# Altium footprint library Badge_V2.PcbLib: 10 footprints
Each footprint in its own frame and in the unit in brackets; x right, y up, seen from the top. Pads: shape width x height; smd on the part's side, far side on the other; paste and mask are expansions set on the pad; w line width, h text height; cw(c..) or ccw(c..) is an arc to the next point about the centre after c.
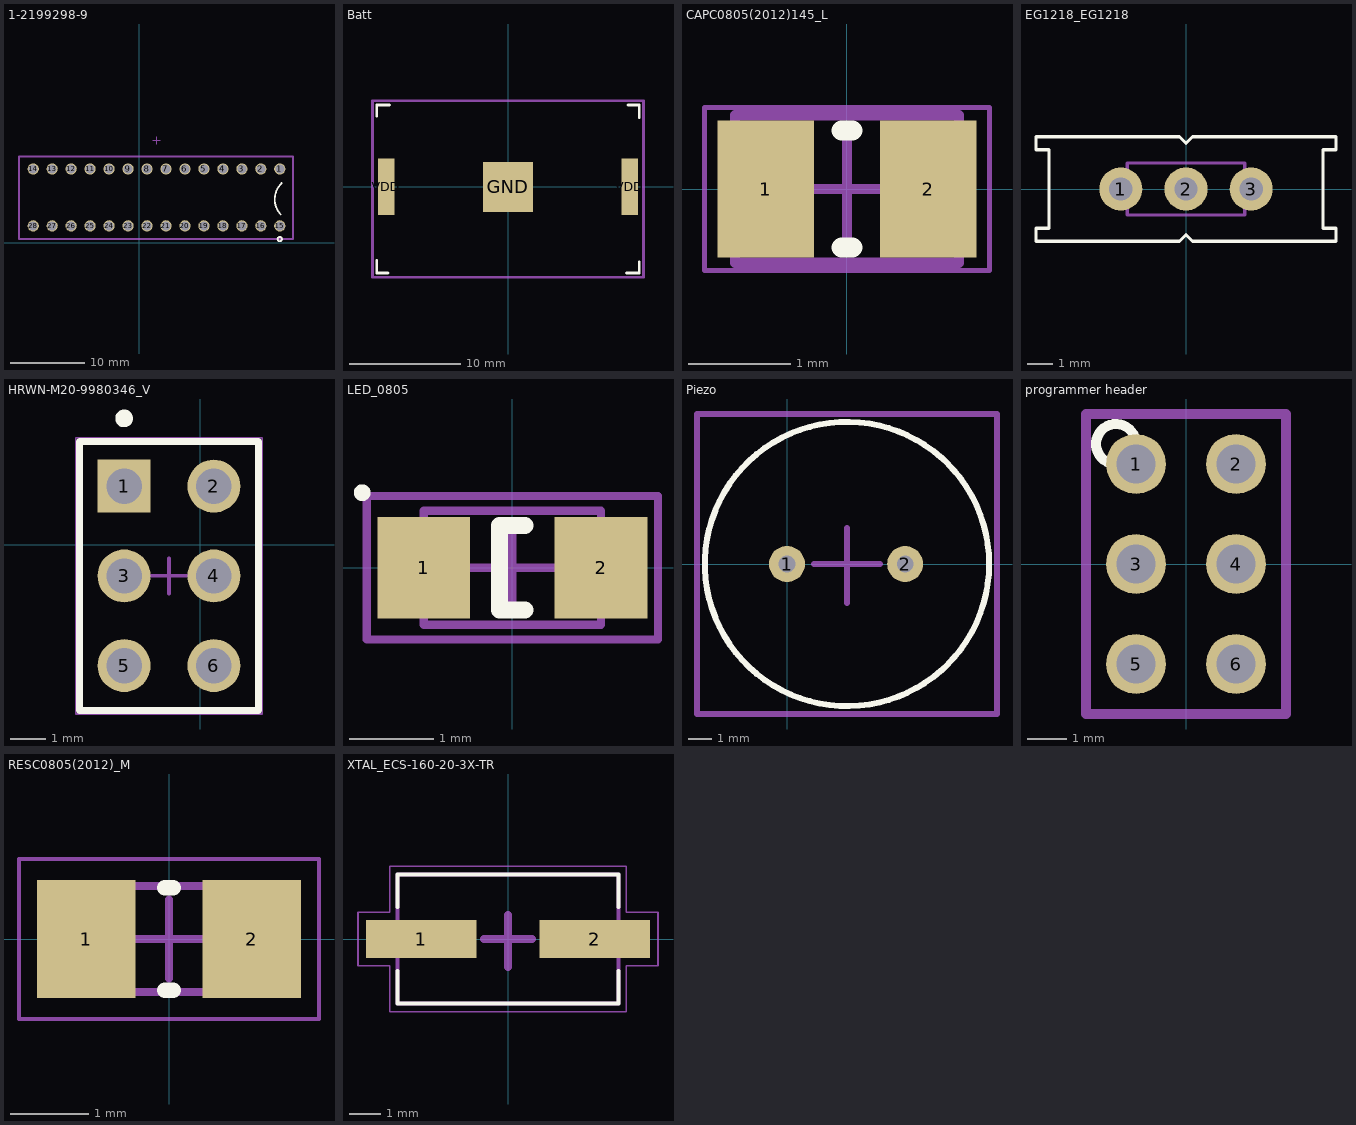
[diagram p0: the footprints below, top view; thin cyan lines are the x and y axes]

## 1-2199298-9 [mm] "CONN IC DIP SOCKET 28POS TIN"
height 4.2
pads (28):
  round 1.5 hole 1.2: 1(18.796,9.906) 2(16.256,9.906) 3(13.716,9.906) 4(11.176,9.906) 5(8.636,9.906) 6(6.096,9.906) 7(3.556,9.906) 8(1.016,9.906) 9(-1.524,9.906) 10(-4.064,9.906) 11(-6.604,9.906) 12(-9.144,9.906) 13(-11.684,9.906) 14(-14.224,9.906) 15(18.796,2.286) 16(16.256,2.286) 17(13.716,2.286) 18(11.176,2.286) 19(8.636,2.286) 20(6.096,2.286) 21(3.556,2.286) 22(1.016,2.286) 23(-1.524,2.286) 24(-4.064,2.286) 25(-6.604,2.286) 26(-9.144,2.286) 27(-11.684,2.286) 28(-14.224,2.286)
Top Overlay:
  circle w0.254: c18.796,0.508 r0.284
  lines w0.254: 18.923,3.81 cw(c21.082,5.842) 19.05,8.001
Mechanical 15:
  lines w0.1: 1.786,13.716 2.786,13.716 ; 2.286,13.216 2.286,14.216
  lines w0.254: -16.129,0.508 20.574,0.508 20.574,11.557 -16.129,11.557 -16.129,0.508
3D body "c-1-2199298-9-a-3d.stp": height 5, standoff -3.1, extent -15.494,0.969 20.066,10.969

## Batt [mm] "Coin Cell"
pads (3):
  rect 4.5x4.5 smd: GND(0,0)
  rect 1.5x5.1 smd: VDD(-10.95,0) VDD(10.95,0)
Top Overlay:
  lines w0.254: -11.811,-6.604 -11.811,-7.747 -10.795,-7.747 ; -11.811,6.35 -11.811,7.366 -10.668,7.366 ; 10.668,-7.747 11.811,-7.747 11.811,-6.731 ; 10.795,7.366 11.811,7.366 11.811,6.223
Mechanical 15:
  lines w0.254: -1.778,0 1.905,0 ; 0,-1.905 0,1.778 ; -12.192,-8.128 12.192,-8.128 12.192,7.747 -12.192,7.747 -12.192,-8.128
3D body: height 0.25, standoff 0, extent -11.811,-7.747 11.811,7.366

## CAPC0805(2012)145_L [mm] "Chip Capacitor, Body 2.0x1.2mm, Height 1.45mm, IPC High Density"
height 1.45
pads (2):
  rect 0.95x1.35 smd: 1(-0.8,0) 2(0.8,0)
Top Overlay:
  lines w0.2: -0.05,-0.575 0.05,-0.575 ; -0.05,0.575 0.05,0.575
Mechanical 13:
  lines w0.1: -1.1,-0.725 -1.1,0.725 1.1,0.725 1.1,-0.725 -1.1,-0.725
Mechanical 15:
  lines w0.05: -1.4,-0.8 -1.4,0.8 1.4,0.8 1.4,-0.8 -1.4,-0.8
  lines w0.1: -0.5,0 0.5,0 ; 0,-0.5 0,0.5
3D body: height 1.45, standoff 0, extent -0.6,-0.725 0.6,0.725
3D body: height 1.45, standoff 0, extent -1.1,-0.725 -0.6,0.725
3D body: height 1.45, standoff 0, extent 0.6,-0.725 1.1,0.725

## EG1218_EG1218 [mil]
pads (3):
  round 66 hole 35.43: 1(-100,0) 2(0,0) 3(100,0)
Top Overlay:
  lines w5: -230,-80 -10,-80 0,-70 10,-80 230,-80 230,-60 210,-60 210,60 230,60 230,80 10,80 0,70 -10,80 -230,80 -230,60 -210,60 -210,-60 -230,-60 -230,-80
Mechanical 4:
  lines w5: -90,-40 90,-40 ; -90,-40 -90,40 ; -90,-40 90,-40 ; -90,-40 -90,40 ; -90,40 90,40 ; -90,40 90,40 ; 90,-40 90,40 ; 90,-40 90,40
3D body "EG1218--3DModel-STEP-56544.STEP": height 303.15, standoff -173.23, extent -228.34,-78.73 228.36,78.75

## HRWN-M20-9980346_V [mm] "THD, 6-Leads, Body 7.62x5.08mm, Pitch 2.54mm"
height 8.64
pads (6):
  rect 1.5x1.5 hole 1: 1(-2.159,1.651)
  round 1.5 hole 1: 2(0.381,1.651) 3(-2.159,-0.889) 4(0.381,-0.889) 5(-2.159,-3.429) 6(0.381,-3.429)
Top Overlay:
  circle w0.25: c-2.159,3.571 r0.125
  lines w0.2: -3.429,-4.699 1.651,-4.699 1.651,2.921 -3.429,2.921 -3.429,-4.699
Mechanical 13:
  lines w0.1: -3.429,-4.699 1.651,-4.699 1.651,2.921 -3.429,2.921 -3.429,-4.699
Mechanical 15:
  lines w0.05: -3.529,-4.799 1.751,-4.799 1.751,3.021 -3.529,3.021 -3.529,-4.799
  lines w0.1: -1.389,-0.889 -0.389,-0.889 ; -0.889,-1.389 -0.889,-0.389
3D body "m20-9980346_asm.stp": height 8.12, standoff -3.56, extent -3.429,-4.699 1.651,2.921

## LED_0805 [mm] "Chip LED, 2-Leads, Body 2.0x1.3mm, IPC Medium Density"
height 0.8
pads (2):
  rect 1.1x1.2 smd: 1(-1.05,0) 2(1.05,0)
Top Overlay:
  circle w0.1: c-1.778,0.889 r0.05
  lines w0.2: 0.15,-0.5 -0.15,-0.5 -0.15,0.5 0.15,0.5
Mechanical 13:
  lines w0.1: -1.05,-0.675 1.05,-0.675 1.05,0.675 -1.05,0.675 -1.05,-0.675
Mechanical 15:
  lines w0.1: -0.5,0 0.5,0 ; 0,-0.5 0,0.5 ; -1.725,-0.85 1.725,-0.85 1.725,0.85 -1.725,0.85 -1.725,-0.85
3D body "WL-SMCW_0805_LED.stp": height 0.68, standoff -0.02, extent -1,-0.625 1,0.625

## Piezo [mil]
pads (2):
  round 60 hole 27.56: 1(0,0) 2(196.85,0)
Top Overlay:
  circle w10: c100,0 r236.91
Mechanical 15:
  lines w10: 45,0 155,0 ; 100,-65 100,60 ; -150,-250 350,-250 350,250 -150,250 -150,-250
3D body: height 255.91, standoff 0, extent -140.15,-240.04 340.16,240.04

## programmer header [mil]
pads (6):
  round 60 hole 39.37: 1(-50,100) 2(50,100) 3(-50,0) 4(50,0) 5(-50,-100) 6(50,-100)
Top Overlay:
  circle w10: c-70,120 r20
Mechanical 1:
  lines w10: -100,-150 100,-150 100,150 -100,150 -100,-150
3D body "010897060.stp": height 330, standoff -107, extent -100,-149.99 100,150.01

## RESC0805(2012)_M [mm] "Chip Resistor, Body 2.0x1.3mm, IPC Low Density"
height 0.7
pads (2):
  rect 1.25x1.5 smd: 1(-1.05,0) 2(1.05,0)
Top Overlay:
  lines w0.2: -0.05,-0.65 0.05,-0.65 ; -0.05,0.65 0.05,0.65
Mechanical 13:
  lines w0.1: -1.1,-0.675 1.1,-0.675 1.1,0.675 -1.1,0.675 -1.1,-0.675
Mechanical 15:
  lines w0.05: -1.905,-1.016 1.905,-1.016 1.905,1.016 -1.905,1.016 -1.905,-1.016
  lines w0.1: -0.5,0 0.5,0 ; 0,-0.5 0,0.5
3D body: height 0.7, standoff 0, extent 0.68,-0.675 1.1,0.675
3D body: height 0.7, standoff 0, extent -0.68,-0.675 0.68,0.675
3D body: height 0.7, standoff 0, extent -1.1,-0.675 -0.68,0.675

## XTAL_ECS-160-20-3X-TR [mm]
pads (2):
  rect 3.5x1.2 smd: 1(-2.75,0) 2(2.75,0)
Top Overlay:
  lines w0.127: -3.5,-1.01 -3.5,-2.05 3.5,-2.05 3.5,-1.01 ; -3.5,1.01 -3.5,2.05 3.5,2.05 3.5,1.01
Mechanical 4:
  lines w0.127: -3.5,-2.05 3.5,-2.05 ; -3.5,-2.05 -3.5,2.05 ; -3.5,-2.05 3.5,-2.05 ; -3.5,-2.05 -3.5,2.05 ; -3.5,2.05 3.5,2.05 ; -3.5,2.05 3.5,2.05 ; 3.5,-2.05 3.5,2.05 ; 3.5,-2.05 3.5,2.05
Mechanical 15:
  lines w0.05: -4.75,-0.85 -4.75,0.85 -3.75,0.85 -3.75,2.3 3.75,2.3 3.75,0.85 4.75,0.85 4.75,-0.85 3.75,-0.85 3.75,-2.3 -3.75,-2.3 -3.75,-0.85 -4.75,-0.85
  lines w0.254: -0.762,0 0.762,0 ; 0,-0.889 0,0.762